# Altium footprint library PA3855.PcbLib: 1 footprints
Each footprint in its own frame and in the unit in brackets; x right, y up, seen from the top. Pads: shape width x height; smd on the part's side, far side on the other; paste and mask are expansions set on the pad; w line width, h text height; cw(c..) or ccw(c..) is an arc to the next point about the centre after c.
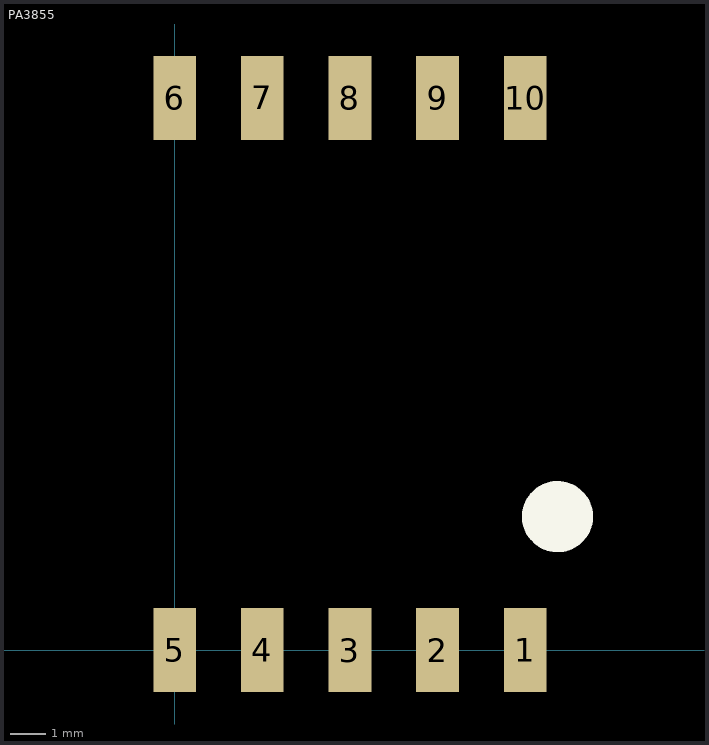
[diagram p0: the footprint, top view; thin cyan lines are the x and y axes]

## PA3855 [mm] "PA3855 and PA3856 Transformers"
height 14
pads (10):
  rect 1.22x2.4 all layers, no hole: 1(10,0) 2(7.5,0) 3(5,0) 4(2.5,0) 5(0,0) 6(0,15.76) 7(2.5,15.76) 8(5,15.76) 9(7.5,15.76) 10(10,15.76)
Top Overlay:
  circle w1.016: c10.922,3.81 r0.508